# Altium schematic symbol library controllerSchLib.SchLib: 5 symbols
Pins are listed as number, name and electrical type; pins without a type are passive.

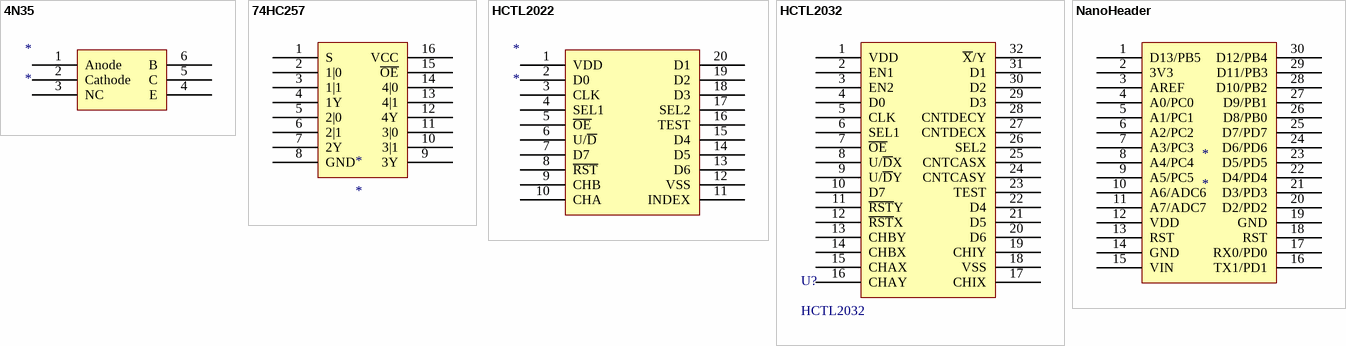
[diagram p0: symbols 4N35 to NanoHeader]

## 4N35
designator *
footprint DIP6LGE
pins: 1 Anode, 2 Cathode, 3 NC, 4 E, 5 C, 6 B

## 74HC257
designator *
footprint DIP16_LGE1.0 (DIP; 16 Leads; Row Spacing 7.62 mm; Pitch 2.54 mm)
pins: 1 S, 2 1|0, 3 1|1, 4 1Y, 5 2|0, 6 2|1, 7 2Y, 8 GND, 9 3Y, 10 3|1, 11 3|0, 12 4Y, 13 4|1, 14 4|0, 15 ~{OE}, 16 VCC

## HCTL2022
designator *
footprint N020D_LGE1.0 (DIP; 20 Leads; Row Spacing 7.62 mm; Pitch 2.54 mm)
pins: 1 VDD, 2 D0, 3 CLK, 4 SEL1, 5 ~{OE}, 6 U/~{D}, 7 D7, 8 ~{RST}, 9 CHB, 10 CHA, 11 INDEX, 12 VSS, 13 D6, 14 D5, 15 D4, 16 TEST, 17 SEL2, 18 D3, 19 D2, 20 D1

## HCTL2032
designator U?
footprint SOIC50P295X100-32L16N (Small Outline IC (SOIC), 0.050 in pitch;32 pin,0.816 in L X 0.296 in W X 0.100 in H body)
pins: 1 VDD, 2 EN1, 3 EN2, 4 D0, 5 CLK, 6 SEL1, 7 ~{OE}, 8 U/~{D}X, 9 U/~{D}Y, 10 D7, 11 ~{RST}Y, 12 ~{RST}X, 13 CHBY, 14 CHBX, 15 CHAX, 16 CHAY, 17 CHIX, 18 VSS, 19 CHIY, 20 D6, 21 D5, 22 D4, 23 TEST, 24 CNTCASY, 25 CNTCASX, 26 SEL2, 27 CNTDECX, 28 CNTDECY, 29 D3, 30 D2, 31 D1, 32 ~{X}/Y

## NanoHeader
designator *
footprint DIP30
pins: 1 D13/PB5, 2 3V3, 3 AREF, 4 A0/PC0, 5 A1/PC1, 6 A2/PC2, 7 A3/PC3, 8 A4/PC4, 9 A5/PC5, 10 A6/ADC6, 11 A7/ADC7, 12 VDD, 13 RST, 14 GND, 15 VIN, 16 TX1/PD1, 17 RX0/PD0, 18 RST, 19 GND, 20 D2/PD2, 21 D3/PD3, 22 D4/PD4, 23 D5/PD5, 24 D6/PD6, 25 D7/PD7, 26 D8/PB0, 27 D9/PB1, 28 D10/PB2, 29 D11/PB3, 30 D12/PB4